# Altium footprint library SamacSys.PcbLib: 47 footprints (part 3 of 3)
Each footprint in its own frame and in the unit in brackets; x right, y up, seen from the top. Pads: shape width x height; smd on the part's side, far side on the other; paste and mask are expansions set on the pad; w line width, h text height; cw(c..) or ccw(c..) is an arc to the next point about the centre after c.
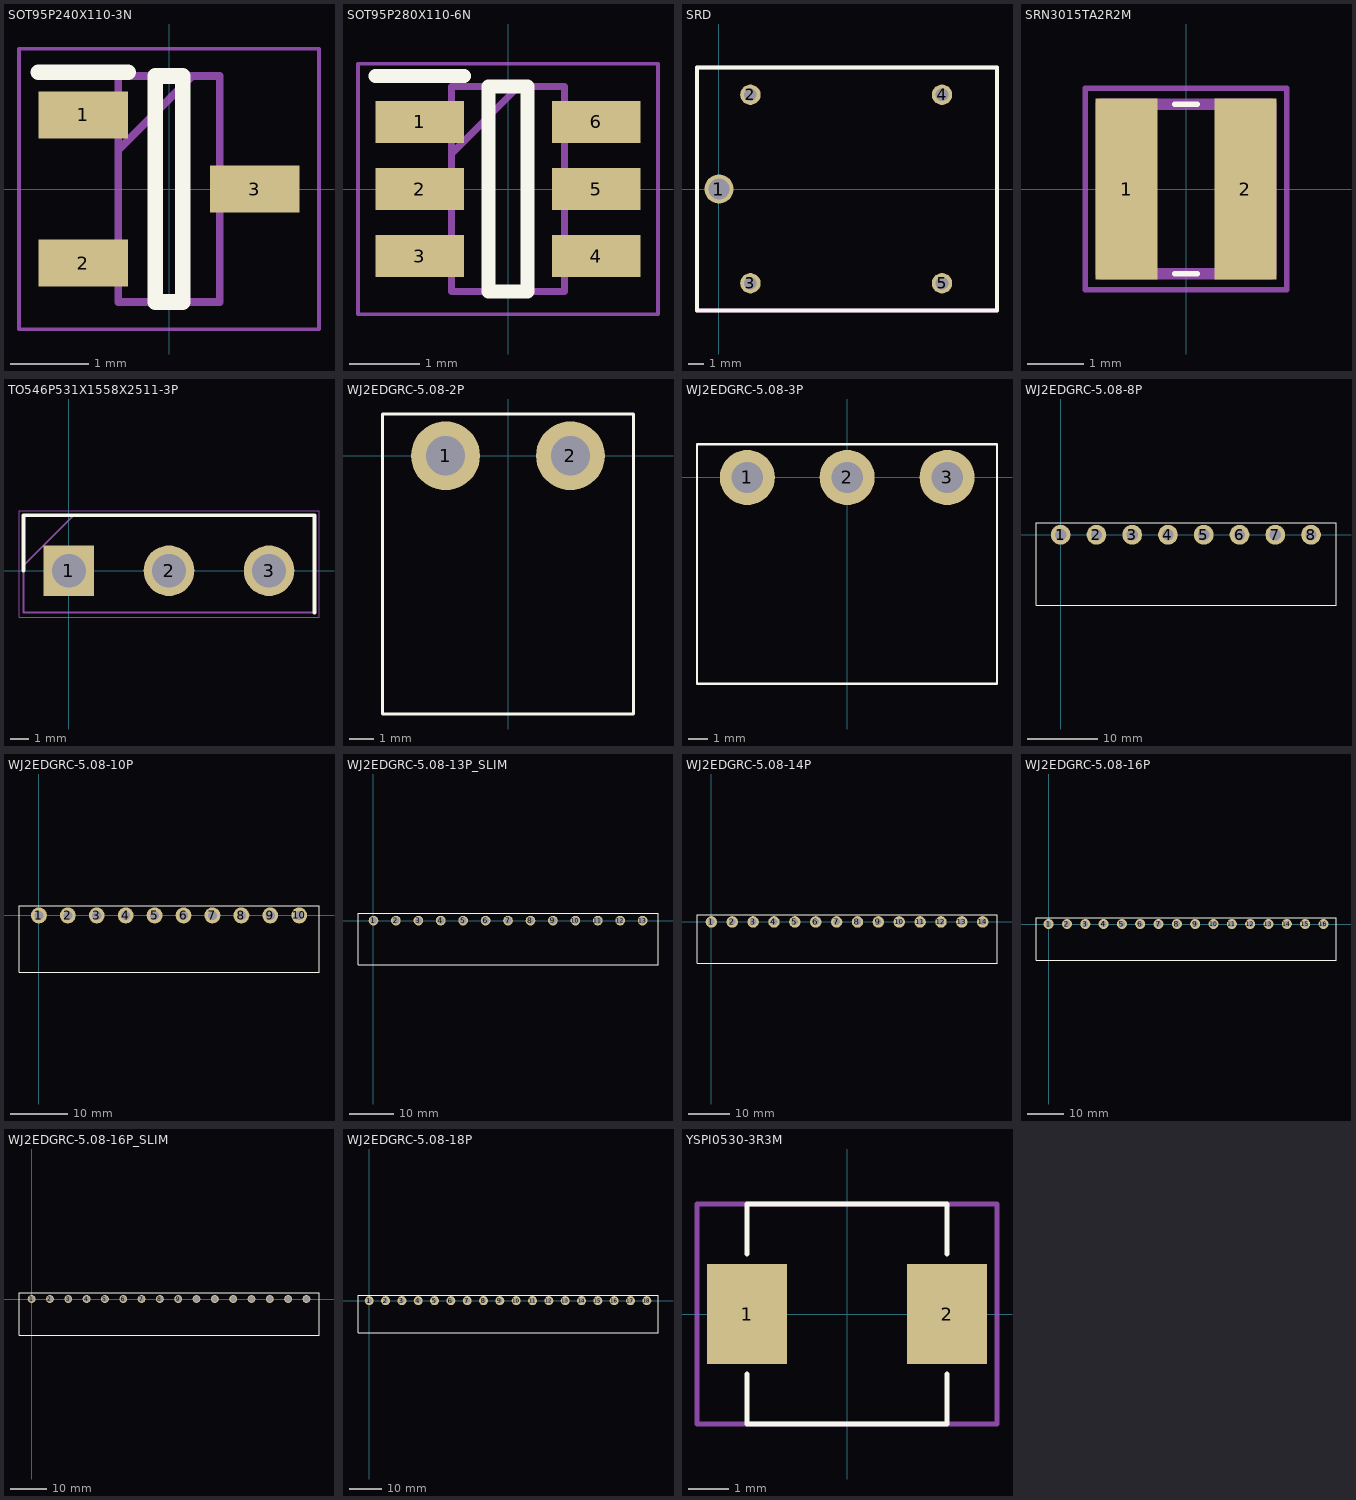
[diagram p2: the footprints below, top view; thin cyan lines are the x and y axes]

## SOT95P240X110-3N [mm]
pads (3):
  rect 1.15x0.6 smd: 1(-1.1,0.95) 2(-1.1,-0.95) 3(1.1,0)
Top Overlay:
  lines w0.2: -1.675,1.5 -0.525,1.5 ; -0.175,-1.45 -0.175,1.45 0.175,1.45 0.175,-1.45 -0.175,-1.45
Mechanical 13:
  lines w0.1: -0.65,0.5 0.3,1.45 ; -0.65,-1.45 -0.65,1.45 0.65,1.45 0.65,-1.45 -0.65,-1.45
Mechanical 15:
  lines w0.05: -1.925,-1.8 -1.925,1.8 1.925,1.8 1.925,-1.8 -1.925,-1.8
3D body "S8050G.stp": height 1.1, standoff 0, extent -1.2,-1.45 1.2,1.45

## SOT95P280X110-6N [mm]
pads (6):
  rect 1.25x0.6 smd: 1(-1.25,0.95) 2(-1.25,0) 3(-1.25,-0.95) 4(1.25,-0.95) 5(1.25,0) 6(1.25,0.95)
Top Overlay:
  lines w0.2: -1.875,1.6 -0.625,1.6 ; -0.275,-1.45 -0.275,1.45 0.275,1.45 0.275,-1.45 -0.275,-1.45
Mechanical 13:
  lines w0.1: -0.8,0.5 0.15,1.45 ; -0.8,-1.45 -0.8,1.45 0.8,1.45 0.8,-1.45 -0.8,-1.45
Mechanical 15:
  lines w0.05: -2.125,-1.775 -2.125,1.775 2.125,1.775 2.125,-1.775 -2.125,-1.775
3D body "TPS565201DDCR.stp": height 1.1, standoff 0, extent -1.4,-1.45 1.4,1.45

## SRD [mm]
pads (5):
  round 1.84 hole 1.34: 1(0,0)
  round 1.3 hole 0.8: 2(2,6) 3(2,-6) 4(14.2,6) 5(14.2,-6)
Top Overlay:
  lines w0.254: -1.4,-7.75 -1.4,7.75 17.7,7.75 17.7,-7.75 -1.4,-7.75
Mechanical 13:
  lines w0.254: -1.4,-7.75 -1.4,7.75 17.7,7.75 17.7,-7.75 -1.4,-7.75
3D body "SRD-05VDC-SL-C.stp": height 15.04, standoff -4.46, extent -1.35,-7.5 17.65,7.5

## SRN3015TA2R2M [mm]
pads (2):
  rect 1.1x3.2 smd: 1(-1.05,0) 2(1.05,0)
Top Overlay:
  lines w0.1: -0.2,-1.5 0.2,-1.5 ; -0.2,1.5 0.2,1.5
Mechanical 13:
  lines w0.2: -1.5,-1.5 -1.5,1.5 1.5,1.5 1.5,-1.5 -1.5,-1.5
Mechanical 15:
  lines w0.1: -1.778,-1.778 -1.778,1.778 1.778,1.778 1.778,-1.778 -1.778,-1.778
3D body "SRN3015TA-2R2M.stp": height 1.41, standoff 0, extent -1.46,-1.47 1.606,1.47

## TO546P531X1558X2511-3P [mm]
pads (3):
  rect 2.76x2.76 hole 1.84: 1(0,0)
  round 2.76 hole 1.84: 2(5.46,0) 3(10.92,0)
Top Overlay:
  lines w0.2: -2.475,0 -2.475,3.02 13.395,3.02 13.395,-2.29
Mechanical 13:
  lines w0.1: -2.475,0.29 0.255,3.02 ; -2.475,-2.29 -2.475,3.02 13.395,3.02 13.395,-2.29 -2.475,-2.29
Mechanical 15:
  lines w0.05: -2.725,-2.54 -2.725,3.27 13.645,3.27 13.645,-2.54 -2.725,-2.54
3D body "IRFP460PBF.stp": height 24.27, standoff -40.53, extent -2.33,-2.29 13.25,3.02

## WJ2EDGRC-5.08-2P [mm]
pads (2):
  round 2.8 hole 1.6: 1(-2.54,0) 2(2.54,0)
Top Overlay:
  lines w0.127: -5.1,-10.5 5.1,-10.5 5.1,1.7 -5.1,1.7 -5.1,0 -5.1,-10.5

## WJ2EDGRC-5.08-3P [mm]
pads (3):
  round 2.8 hole 1.6: 1(-5.08,0) 2(0,0) 3(5.08,0)
Top Overlay:
  lines w0.127: -7.64,-10.5 -7.64,0 -7.64,1.7 7.62,1.7 7.62,-10.5 -7.64,-10.5

## WJ2EDGRC-5.08-8P [mm]
pads (8):
  round 2.8 hole 1.6: 1(0,0) 2(5.08,0) 3(10.16,0) 4(15.24,0) 5(20.32,0) 6(25.4,0) 7(30.48,0) 8(35.56,0)
Top Overlay:
  lines w0.127: -3.5,-10 39.1,-10 39.1,1.7 -3.5,1.7 -3.5,0 -3.5,-10

## WJ2EDGRC-5.08-10P [mm]
pads (10):
  round 2.8 hole 1.6: 1(0,0) 2(5.08,0) 3(10.16,0) 4(15.24,0) 5(20.32,0) 6(25.4,0) 7(30.48,0) 8(35.56,0) 9(40.64,0) 10(45.72,0)
Top Overlay:
  lines w0.127: -3.5,-10 -3.5,0 -3.5,1.7 49.2,1.7 49.2,0 49.2,-10 -3.5,-10

## WJ2EDGRC-5.08-13P_SLIM [mm]
pads (13):
  round 2.2 hole 1.6: 1(0,0) 2(5.08,0) 3(10.16,0) 4(15.24,0) 5(20.32,0) 6(25.4,0) 7(30.48,0) 8(35.56,0) 9(40.64,0) 10(45.72,0) 11(50.8,0) 12(55.88,0) 13(60.96,0)
Top Overlay:
  lines w0.127: -3.5,-10 -3.5,0 -3.5,1.7 64.44,1.7 64.44,0 64.44,-10 -3.5,-10

## WJ2EDGRC-5.08-14P [mm]
pads (14):
  round 2.8 hole 1.6: 1(0,0) 2(5.08,0) 3(10.16,0) 4(15.24,0) 5(20.32,0) 6(25.4,0) 7(30.48,0) 8(35.56,0) 9(40.64,0) 10(45.72,0) 11(50.8,0) 12(55.88,0) 13(60.96,0) 14(66.04,0)
Top Overlay:
  lines w0.127: -3.5,-10 69.52,-10 69.52,0 69.52,1.7 -3.5,1.7 -3.5,0 -3.5,-10

## WJ2EDGRC-5.08-16P [mm]
pads (16):
  round 2.8 hole 1.6: 1(0,0) 2(5.08,0) 3(10.16,0) 4(15.24,0) 5(20.32,0) 6(25.4,0) 7(30.48,0) 8(35.56,0) 9(40.64,0) 10(45.72,0) 11(50.8,0) 12(55.88,0) 13(60.96,0) 14(66.04,0) 15(71.12,0) 16(76.2,0)
Top Overlay:
  lines w0.127: -3.5,-10 79.68,-10 79.68,0 79.68,1.7 -3.5,1.7 -3.5,0 -3.5,-10

## WJ2EDGRC-5.08-16P_SLIM [mm]
pads (16):
  round 2.2 hole 1.6: 1(0,0) 2(5.08,0) 3(10.16,0) 4(15.24,0) 5(20.32,0) 6(25.4,0) 7(30.48,0) 8(35.56,0) 9(40.64,0) 10(45.72,0) 11(50.8,0) 12(55.88,0) 13(60.96,0) 14(66.04,0) 15(71.12,0) 16(76.2,0)
Top Overlay:
  lines w0.127: -3.5,-10 -3.5,0 -3.5,1.7 79.68,1.7 79.68,0 79.68,-10 -3.5,-10

## WJ2EDGRC-5.08-18P [mm]
pads (18):
  round 2.8 hole 1.6: 1(0,0) 2(5.08,0) 3(10.16,0) 4(15.24,0) 5(20.32,0) 6(25.4,0) 7(30.48,0) 8(35.56,0) 9(40.64,0) 10(45.72,0) 11(50.8,0) 12(55.88,0) 13(60.96,0) 14(66.04,0) 15(71.12,0) 16(76.2,0) 17(81.28,0) 18(86.36,0)
Top Overlay:
  lines w0.127: -3.5,-10 89.84,-10 89.84,0 89.84,1.7 -3.5,1.7 -3.5,0 -3.5,-10

## YSPI0530-3R3M [mm]
pads (2):
  rect 2x2.5 smd: 1(-2.5,0) 2(2.5,0)
Top Overlay:
  lines w0.127: -2.5,-1.5 -2.5,-2.75 2.5,-2.75 2.5,-1.5 ; -2.5,1.5 -2.5,2.75 2.5,2.75 2.5,1.5
Mechanical 15:
  lines w0.127: -3.75,-2.75 3.75,-2.75 3.75,2.75 -3.75,2.75 -3.75,-2.75